# Altium integrated library lib_molex.IntLib: 4 symbols
Pins are listed as number, name and electrical type; pins without a type are passive.

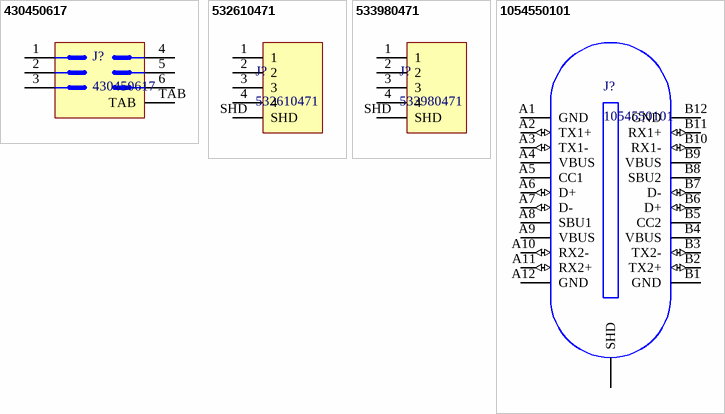
[diagram p0: symbols 430450617 to 1054550101]

## 430450617
designator J?
Micro-Fit 3.0 Vertical Header, 3.00mm Pitch, Dual Row, 6 Circuits, with PCB Press-fit Metal Retention Clip, Gold, Glow-Wire Capable, Black; ComponentLink1Description: drawing; ComponentLink1URL: https://www.molex.com/pdm_docs/sd/430450617_sd.pdf
footprint 430450617
footprint 430450607
pins: 1, 2, 3, 4, 5, 6, TAB

## 532610471
designator J?
1.25mm Pitch, PicoBlade PCB Header, Single Row, Right-Angle, Surface Mount, Tin (Sn) Plating, Friction Lock, 4 Circuits, Tape and Reel; ComponentLink1Description: Product page; ComponentLink1URL: https://www.molex.com/molex/products/part-detail/pcb_headers/0532610471; ComponentLink2Description: Drawing; ComponentLink2URL: https://www.molex.com/pdm_docs/sd/532610471_sd.pdf
footprint 532610471
pins: 1, 2, 3, 4, SHD

## 533980471
designator J?
1.25mm Pitch, PicoBlade PCB Header, Single Row, Vertical, Surface Mount, Tin (Sn) Plating, Friction Lock, 4 Circuits, Tape and Reel, 0.60mm PC Tail Length; ComponentLink1Description: Product page; ComponentLink1URL: https://www.molex.com/molex/products/part-detail/pcb_headers/0533980471; ComponentLink2Description: Drawing; ComponentLink2URL: https://www.molex.com/pdm_docs/sd/533980471_sd.pdf
footprint 533980471
pins: 1, 2, 3, 4, SHD

## 1054550101
designator J?
USB TYPE C REC MIDDLE MOUNT TYPE; ComponentLink1Description: drawing; ComponentLink1URL: https://www.molex.com/pdm_docs/sd/1054550101_sd.pdf
footprint 1054550101
pins: A1 GND (power), A2 TX1+ (io), A3 TX1- (io), A4 VBUS (power), A5 CC1, A6 D+ (io), A7 D- (io), A8 SBU1, A9 VBUS (power), A10 RX2- (io), A11 RX2+ (io), A12 GND (power), B1 GND (power), B2 TX2+ (io), B3 TX2- (io), B4 VBUS (power), B5 CC2, B6 D+ (io), B7 D- (io), B8 SBU2, B9 VBUS (power), B10 RX1- (io), B11 RX1+ (io), B12 GND (power), SHD